# EAGLE library part BL600 (library library)
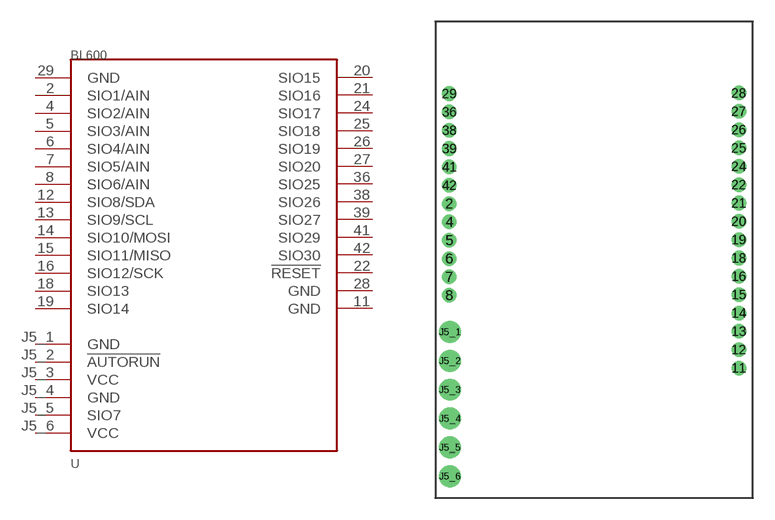
[diagram p0: symbol with the pads of BOB; footprint BOB]

Designator prefix U

## BL600  [BOB]
2  SIO1/AIN
4  SIO2/AIN
5  SIO3/AIN
6  SIO4/AIN
7  SIO5/AIN
8  SIO6/AIN
11  GND  pwr
12  SIO8/SDA
13  SIO9/SCL
14  SIO10/MOSI
15  SIO11/MISO
16  SIO12/SCK
18  SIO13
19  SIO14
20  SIO15
21  SIO16
22  !RESET
24  SIO17
25  SIO18
26  SIO19
27  SIO20
28  GND  pwr
29  GND  pwr
36  SIO25
38  SIO26
39  SIO27
41  SIO29
42  SIO30
J5_1  GND  pwr
J5_2  !AUTORUN
J5_3  VCC  pwr
J5_4  GND  pwr
J5_5  SIO7
J5_6  VCC  pwr

## Footprint BOB (pad centres in mm)
drill 0.5: 2 -9.19,3.88; 4 -9.19,2.61; 5 -9.19,1.34; 6 -9.19,0.07; 7 -9.19,-1.2; 8 -9.19,-2.47; 11 10.86,-7.51; 12 10.86,-6.24; 13 10.86,-4.97; 14 10.86,-3.7; 15 10.86,-2.43; 16 10.86,-1.16; 18 10.86,0.11; 19 10.86,1.38; 20 10.86,2.65; 21 10.86,3.92; 22 10.86,5.19; 24 10.86,6.46; 25 10.86,7.73; 26 10.86,9; 27 10.86,10.27; 28 10.86,11.54; 29 -9.19,11.5; 36 -9.19,10.23; 38 -9.19,8.96; 39 -9.19,7.69; 41 -9.19,6.42; 42 -9.19,5.15
drill 1: J5_1 -9.16,-5.01; J5_2 -9.16,-7.01; J5_3 -9.16,-9.01; J5_4 -9.16,-11.01; J5_5 -9.16,-13.01; J5_6 -9.16,-15.01